# EAGLE library part 2MM-1X7-HEADER (library DAC)
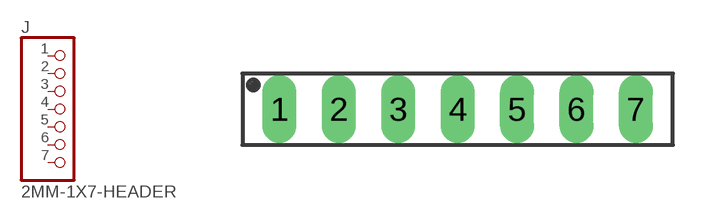
[diagram p49: symbol with the pads of 1X07_2MMFE; footprint 1X07_2MMFE]

Designator prefix J

## 2MM-1X7-HEADER  [1X07_2MMFE]
1  1  pas
2  2  pas
3  3  pas
4  4  pas
5  5  pas
6  6  pas
7  7  pas

## Footprint 1X07_2MMFE (pad centres in mm)
drill 0.635 long: 1 -6,0; 2 -4,0; 3 -2,0; 4 0,0; 5 2,0; 6 4,0; 7 6,0